# EAGLE library part AUDIO-AMP-STEREO-TPA2012 (library FlashPCB_ICs)
TPA2012 - IC AMP CLASS D STEREO 2.1W 20QFN Technical Specifications: Amplifier IC 2-Channel (Stereo) Class D 20-QFN (4x4) Output Type: 2-Channel (Stereo) Max Power: 2.1W x 2 @ 4 Ohm 5V / 1.4 W x 2 @ 8 Ohm 5V / 720mW x 2 @ 8 Ohm 3.6V Supply Voltage: 2.5V~5.5V Features: Differential Inputs, Short-Cuircuit and Thermal Protection, Shutdown Component Search: TPA2012 <https://www.flashpcb.com/components> Datasheet: TPA2012D2 2.1-W/Channel Stereo Filter-Free Class-D Audio Power Amplifier datasheet (Rev. F) <https://www.ti.com/lit/ds/symlink/tpa2012d2.pdf?HQS=dis-dk-null-digikeymode-dsf-pf-null-wwe&ts=1685556689895&ref_url=https%253A%252F%252Fwww.ti.com%252Fgeneral%252Fdocs%252Fsuppproductinfo.tsp%253FdistId%253D10%2526gotoUrl%253Dhttps%253A%252F%252Fwww.ti.com%252Flit%252Fgpn%252Ftpa2012d2>
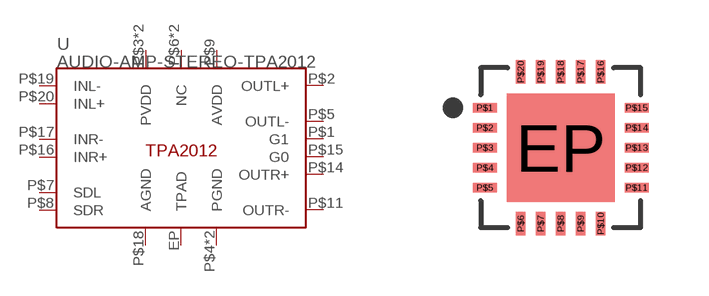
[diagram p21: symbol with the pads of 20-WQFN(4X4); footprint 20-WQFN(4X4)]

Designator prefix U

## AUDIO-AMP-STEREO-TPA2012RTJ  [20-WQFN(4X4)]
EP  TPAD
P$1  G1
P$2  OUTL+
P$3  PVDD
P$4  PGND
P$5  OUTL-
P$6  NC
P$7  SDL
P$8  SDR
P$9  AVDD
P$10  NC
P$11  OUTR-
P$12  PGND
P$13  PVDD
P$14  OUTR+
P$15  G0
P$16  INR+
P$17  INR-
P$18  AGND
P$19  INL-
P$20  INL+

## Footprint 20-WQFN(4X4) (pad centres in mm)
smd 2.7 x 2.7: EP 0,0
smd 0.6 x 0.24: P$1 -1.9,1; P$2 -1.9,0.5; P$3 -1.9,0; P$4 -1.9,-0.5; P$5 -1.9,-1; P$11 1.9,-1; P$12 1.9,-0.5; P$13 1.9,0; P$14 1.9,0.5; P$15 1.9,1
smd 0.24 x 0.6: P$6 -1,-1.9; P$7 -0.5,-1.9; P$8 0,-1.9; P$9 0.5,-1.9; P$10 1,-1.9; P$16 1,1.9; P$17 0.5,1.9; P$18 0,1.9; P$19 -0.5,1.9; P$20 -1,1.9